# EAGLE library part 74AC04 (library std-components-pir)
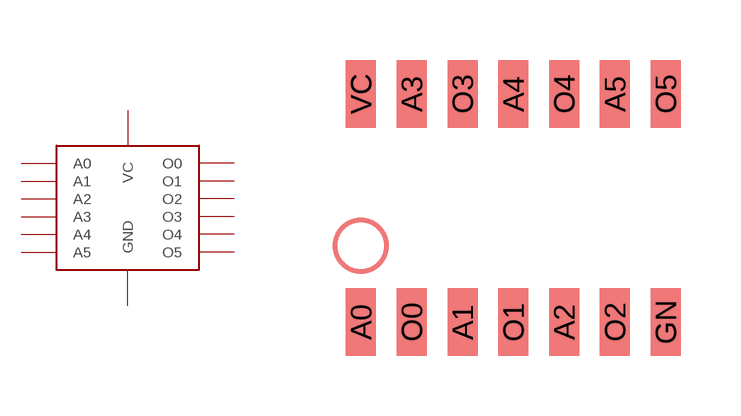
[diagram p0: symbol with the pads of TSOP14; footprint TSOP14]

Designator prefix -

## 74AC04  [TSOP14]
A0  A0
A1  A1
A2  A2
A3  A3
A4  A4
A5  A5
GN  GND
O0  O0
O1  O1
O2  O2
O3  O3
O4  O4
O5  O5
VC  VC

## Footprint TSOP14 (pad centres in mm)
smd 0.75 x 1.7: A0 -1.27,-1.27; A1 1.27,-1.27; A2 3.81,-1.27; A3 0,4.43; A4 2.54,4.43; A5 5.08,4.43; GN 6.35,-1.27; O0 0,-1.27; O1 2.54,-1.27; O2 5.08,-1.27; O3 1.27,4.43; O4 3.81,4.43; O5 6.35,4.43; VC -1.27,4.43